# Altium schematic symbol library LED-Green.SchLib: 1 symbol
Pins are listed as number, name and electrical type; pins without a type are passive.

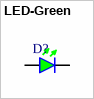
[diagram p0: symbol LED-Green]

## LED-Green
designator D?  (value not drawn)
pins: A, K